# EAGLE library part ATTINY88 (library pimoroni)
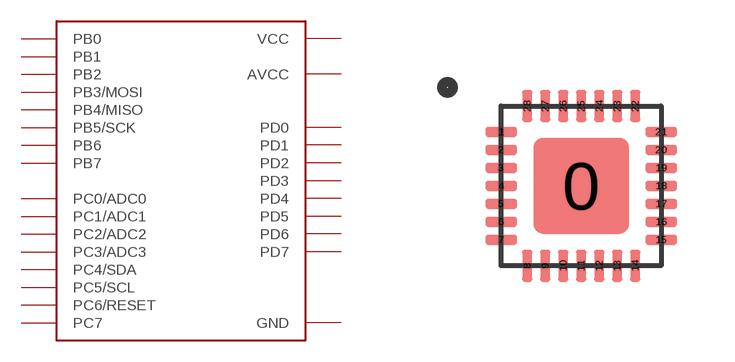
[diagram p58: symbol with the pads of QFN-28; footprint QFN-28]

Designator prefix -

## ATTINY88  [QFN-28]
0  GND
1  PD3
2  PD4
3  VCC
4  GND
5  PB6
6  PB7
7  PD5
8  PD6
9  PD7
10  PB0
11  PB1
12  PB2
13  PB3/MOSI
14  PB4/MISO
15  PB5/SCK
16  AVCC
17  PC7
18  GND
19  PC0/ADC0
20  PC1/ADC1
21  PC2/ADC2
22  PC3/ADC3
23  PC4/SDA
24  PC5/SCL
25  PC6/RESET
26  PD0
27  PD1
28  PD2

## Footprint QFN-28 (pad centres in mm)
smd 2.4 x 2.4: 0 0,0
smd 0.8 x 0.26: 1 -2,1.35; 2 -2,0.9; 3 -2,0.45; 4 -2,0; 5 -2,-0.45; 6 -2,-0.9; 7 -2,-1.35; 15 2,-1.35; 16 2,-0.9; 17 2,-0.45; 18 2,0; 19 2,0.45; 20 2,0.9; 21 2,1.35
smd 0.26 x 0.8: 8 -1.35,-2; 9 -0.9,-2; 10 -0.45,-2; 11 0,-2; 12 0.45,-2; 13 0.9,-2; 14 1.35,-2; 22 1.35,2; 23 0.9,2; 24 0.45,2; 25 0,2; 26 -0.45,2; 27 -0.9,2; 28 -1.35,2